# EAGLE library part TPS61030 (library IC & Transistor)
Synchronous Boost Converter
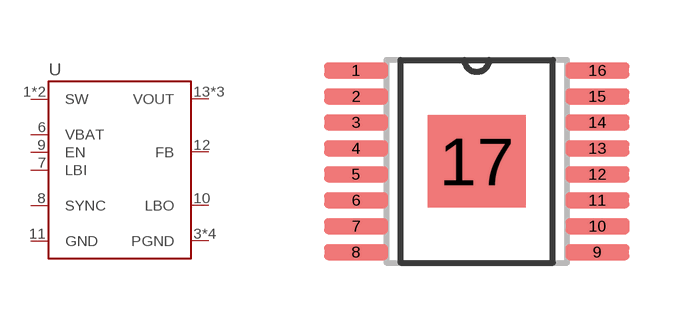
[diagram p31: symbol with the pads of R-PDSO-G16; footprint R-PDSO-G16]

Designator prefix U

## TPS61030 (CYTRON-PC: S-VR-5-TPS61032-TSSOP16; DESC: Synchronous Boost Converter; MF: Texas Instruments; MPN: TPS61030PWPR)  [R-PDSO-G16]
1  SW
2  SW
3  PGND
4  PGND
5  PGND
6  VBAT
7  LBI
8  SYNC
9  EN
10  LBO
11  GND
12  FB
13  VOUT
14  VOUT
15  VOUT
17  PGND

## Footprint R-PDSO-G16 (pad centres in mm)
PowerPAD Small Plastic Outline, PWP (R-PDSO-G16) Product Code: Size: 5.2 x 7.8 mm
smd 1.6 x 0.4: 1 -3.019,2.275; 2 -3.019,1.625; 3 -3.019,0.975; 4 -3.019,0.325; 5 -3.019,-0.325; 6 -3.019,-0.975; 7 -3.019,-1.625; 8 -3.015,-2.275; 9 3.015,-2.275; 10 3.019,-1.625; 11 3.015,-0.975; 12 3.015,-0.325; 13 3.015,0.325; 14 3.015,0.975; 15 3.015,1.625; 16 3.015,2.275
smd 2.46 x 2.31: 17 0,0